# EAGLE library part ZH6_SMT (library 14_JST)
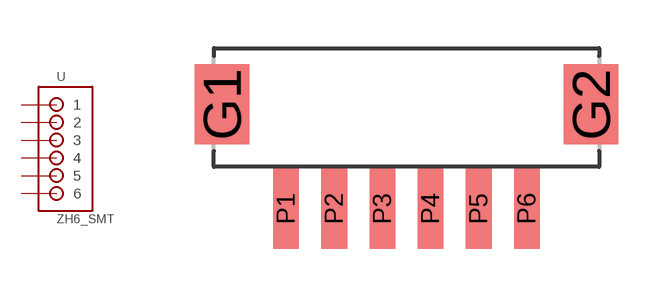
[diagram p0: symbol with the pads of ZH6_SMT; footprint ZH6_SMT]

Designator prefix -

## ZH6_SMT  [ZH6_SMT]
P1  1
P2  2
P3  3
P4  4
P5  5
P6  6

## Footprint ZH6_SMT (pad centres in mm)
smd 1.7 x 2.5: G1 -5.75,1.95; G2 5.75,1.95
smd 0.8 x 2.5: P1 -3.75,-1.3; P2 -2.25,-1.3; P3 -0.75,-1.3; P4 0.75,-1.3; P5 2.25,-1.3; P6 3.75,-1.3